# Altium schematic symbol library Schlib1.SchLib: 33 symbols
Pins are listed as number, name and electrical type; pins without a type are passive.

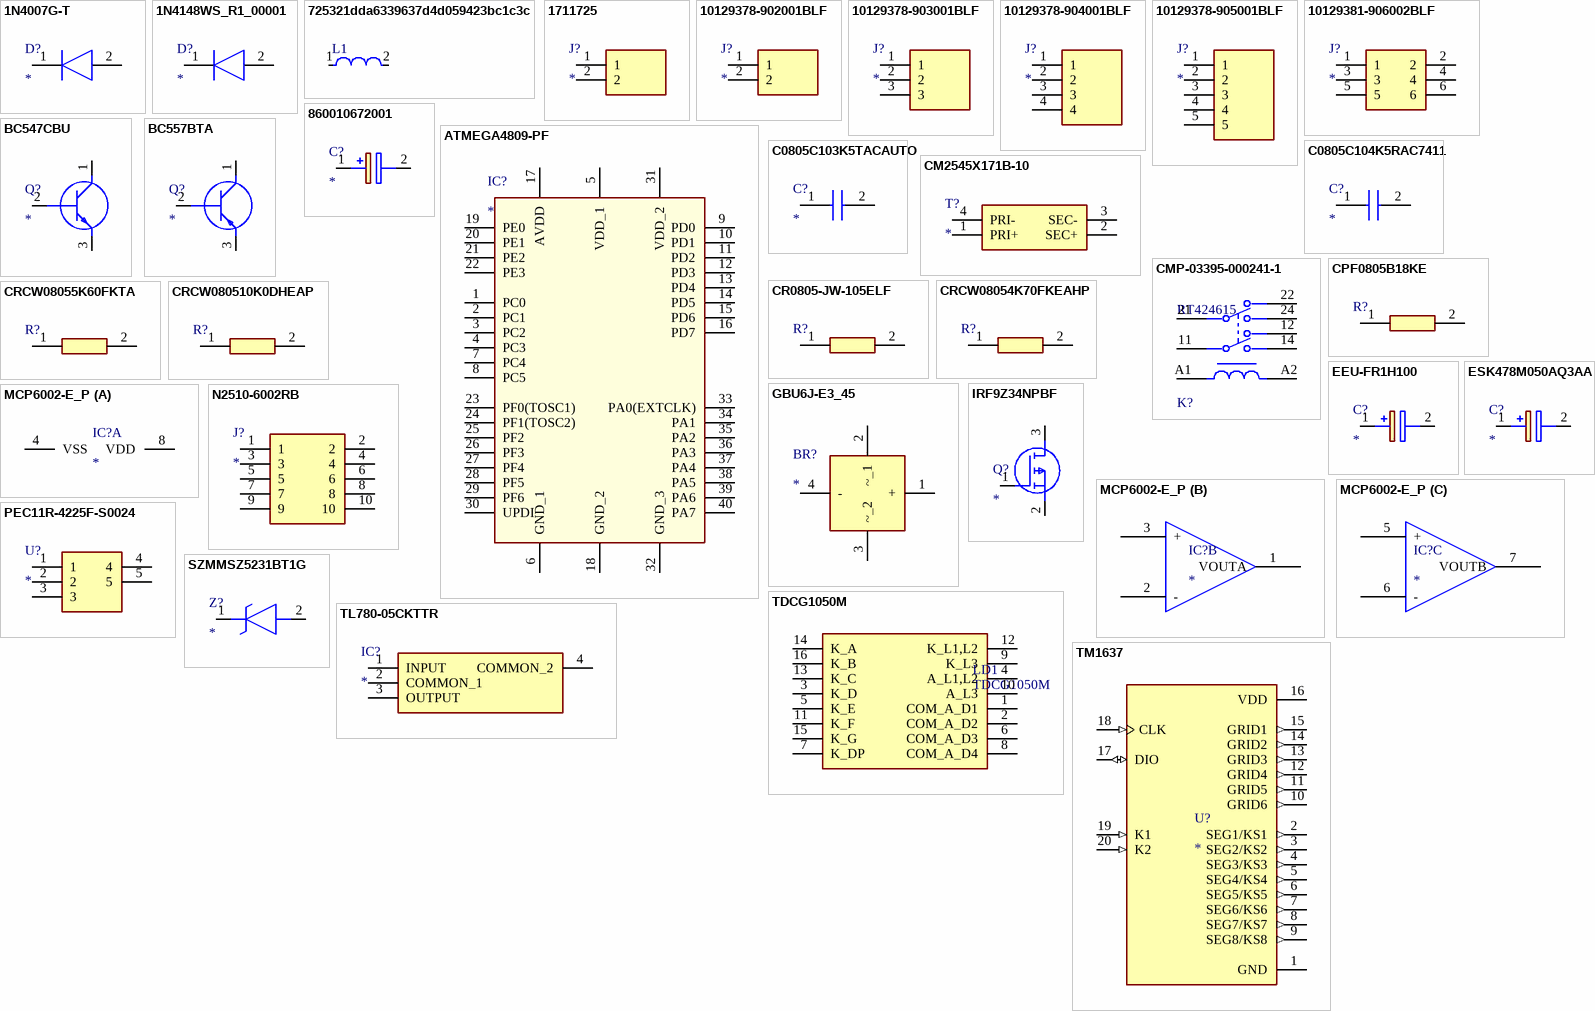
[diagram p0: symbols 1N4007G-T to TM1637]

## 1N4007G-T
designator D?
Diode; Manufacturer_Name: Diodes Inc.; Manufacturer_Part_Number: 1N4007G-T; Datasheet Link: https://componentsearchengine.com//1N4007G-T.pdf; Mouser2 Part Number: 621-1N4007G-T; Mouser2 Price/Stock: https://www.mouser.com/Search/Refine.aspx?Keyword=621-1N4007G-T
footprint D1
pins: 1 K, 2 A

## 1N4148WS_R1_00001
designator D?
Diode; Manufacturer_Name: PANJIT; Manufacturer_Part_Number: 1N4148WS_R1_00001; Datasheet Link: https://www.mouser.it/datasheet/2/1057/1N4148WS-1869723.pdf; Height: 0.95mm
footprint D3
pins: 1 K, 2 A

## 725321dda6339637d4d059423bc1c3c
designator L1, comment CBC3225T100MR  (value not drawn)
SMD Inductors 10uH ±20% 0.9A 0.1729Ω 1210; Shielding: Unshielded; DC Resistance (DCR): 172.9mR; Core Material: Ferrite; Self Resonant Frequency: 23MHz; Max DC Current: 900mA; Test Frequency: 100kHz; Package Quantity: 1000; Military Standard: Not; Inductance: 10uH; Height: 2.5mm; Case Code (Metric): 3225; Width: 0.098inch; Case Code (Imperial): 1210; Inductance Tolerance: 20%; Lead Free: Lead Free; Length: 3.4mm; Max Operating Temperature: 105°C; Resistor Type: Wirewound; Height - Seated (Max): 0.106inch; Series: CB; Packaging: Tape and Reel; Depth: 2.7mm; Number of Pins: 2; Radiation Hardening: No; Tolerance: 20%; Case/Package: 1210; Mount: Surface Mount; Saturation Current: 900mA; Min Operating Temperature: -40°C; DC Current: 900mA; Current Rating: 900mA; Halogen Free: Halogen Free; Termination: SMD/SMT
footprint FP-CB3225-IPC_A
footprint FP-CB3225-MFG
footprint FP-CB3225-IPC_B
footprint FP-CB3225-IPC_C
pins: 1, 2

## 1711725
designator J?
Connector; Manufacturer_Name: Phoenix Contact; Manufacturer_Part_Number: 1711725; Datasheet Link: http://www.phoenixcontact.com/de/produkte/1711725/pdf; Height: 18.2mm
footprint Phoenix (Serie 2535 - 5.08 mm _ 2 pins)
pins: 1, 2

## 10129378-902001BLF
designator J?
Connector; Manufacturer_Name: Amphenol; Manufacturer_Part_Number: 10129378-902001BLF; Datasheet Link: https://www.mouser.co.uk/datasheet/2/18/10129378-1530218.pdf; Height: 8.43mm
footprint HDRV2W67P0X254_1X2_508X241X843P
pins: 1, 2

## 10129378-903001BLF
designator J?
Connector; Manufacturer_Name: Amphenol; Manufacturer_Part_Number: 10129378-903001BLF; Height: 8.58mm
footprint 3x1
pins: 1, 2, 3

## 10129378-904001BLF
designator J?
Connector; Manufacturer_Name: Amphenol; Manufacturer_Part_Number: 10129378-904001BLF; Datasheet Link: https://cdn.amphenol-icc.com/media/wysiwyg/files/drawing/10129378.pdf; Height: 8.58mm
footprint 4x1
pins: 1, 2, 3, 4

## 10129378-905001BLF
designator J?
Connector; Manufacturer_Name: FCI Electronics; Manufacturer_Part_Number: 10129378-905001BLF; Datasheet Link: https://cdn.amphenol-icc.com/media/wysiwyg/files/drawing/10129378.pdf; Height: 8.58mm
footprint 5x1
pins: 1, 2, 3, 4, 5

## 10129381-906002BLF
designator J?
Connector; Manufacturer_Name: Amphenol; Manufacturer_Part_Number: 10129381-906002BLF; Datasheet Link: https://componentsearchengine.com//10129381-906002BLF.pdf; Height: 8.58mm; Mouser2 Part Number: 649-1012938190602BLF; Mouser2 Price/Stock: https://www.mouser.com/Search/Refine.aspx?Keyword=649-1012938190602BLF
footprint 3x2
pins: 1, 2, 3, 4, 5, 6

## 860010672001
designator C?
Capacitor Polarised 0.1uF 50V; Manufacturer_Name: Wurth Elektronik; Manufacturer_Part_Number: 860010672001; Datasheet Link: http://katalog.we-online.com/pbs/datasheet/860010672001.pdf; Height: 12.5mm
footprint 100nF (Ceramic Capacitors, body 2x1.25mm)
pins: 1 +, 2 -

## ATMEGA4809-PF
designator IC?
Integrated Circuit; Manufacturer_Name: Microchip; Manufacturer_Part_Number: ATMEGA4809-PF; Datasheet Link: https://componentsearchengine.com//ATMEGA4809-PF.pdf; Height: 6.35mm; Mouser2 Part Number: 556-ATMEGA4809-PF; Mouser2 Price/Stock: https://www.mouser.com/Search/Refine.aspx?Keyword=556-ATMEGA4809-PF
footprint Atmega
pins: 1 PC0, 2 PC1, 3 PC2, 4 PC3, 5 VDD_1, 6 GND_1, 7 PC4, 8 PC5, 9 PD0, 10 PD1, 11 PD2, 12 PD3, 13 PD4, 14 PD5, 15 PD6, 16 PD7, 17 AVDD, 18 GND_2, 19 PE0, 20 PE1, 21 PE2, 22 PE3, 23 PF0(TOSC1), 24 PF1(TOSC2), 25 PF2, 26 PF3, 27 PF4, 28 PF5, 29 PF6, 30 UPDI, 31 VDD_2, 32 GND_3, 33 PA0(EXTCLK), 34 PA1, 35 PA2, 36 PA3, 37 PA4, 38 PA5, 39 PA6, 40 PA7

## BC547CBU
designator Q?
Transistor BJT NPN; Manufacturer_Name: ON Semiconductor; Manufacturer_Part_Number: BC547CBU; Datasheet Link: https://www.onsemi.com/pdf/datasheet/bc550-d.pdf; Height: 5.33mm
footprint TTTT
pins: 1 C, 2 B, 3 E

## BC557BTA
designator Q?
Transistor BJT PNP; Manufacturer_Name: ON Semiconductor; Manufacturer_Part_Number: BC557BTA; Datasheet Link: https://componentsearchengine.com//BC557BTA.pdf; Height: 4.19mm; Mouser2 Part Number: 512-BC557BTA; Mouser2 Price/Stock: https://www.mouser.com/Search/Refine.aspx?Keyword=512-BC557BTA
footprint TTTT
pins: 1 C, 2 B, 3 E

## C0805C103K5TACAUTO
designator C?
Capacitor 0.01µF 50VDC; Manufacturer_Name: Kemet; Manufacturer_Part_Number: C0805C103K5TACAUTO; Height: 0.88mm
footprint 10nF (Ceramic Capacitors, body 2x1.25mm)
pins: 1, 2

## C0805C104K5RAC7411
designator C?
Capacitor  0.1 uF 50VDC; Manufacturer_Name: Kemet; Manufacturer_Part_Number: C0805C104K5RAC7411; Datasheet Link: https://componentsearchengine.com//C0805C104K5RAC7411.pdf; Height: 0.88mm; Mouser2 Part Number: 80-C0805C104K5RACLR; Mouser2 Price/Stock: https://www.mouser.com/Search/Refine.aspx?Keyword=80-C0805C104K5RACLR
footprint 100nF (Ceramic Capacitors, body 2x1.25mm)
pins: 1, 2

## CM2545X171B-10
designator T?
Transformer; Manufacturer_Name: Laird Technologies; Manufacturer_Part_Number: CM2545X171B-10; Datasheet Link: https://datasheet.datasheetarchive.com/originals/dk/DKDS-7/122753.pdf; Height: 9.5mm
footprint L2
pins: 1 PRI+, 2 SEC+, 3 SEC-, 4 PRI-

## CMP-03395-000241-1
designator K?, comment RT424615
RELAY GEN PURPOSE DPDT 8A 115V; Max Current Rating: 15A; Ratings: IP54; Coil Type: Non-Latching; Power Rating: 760mW; Max Voltage Rating (AC): 400V; Coil Resistance: 8.1kR; Operate Time: 8ms; Approvals: CSA; Application(s): POWER; Relay Type: General Purpose; Switching Capacity: 2kW; Length: 29mm; Switching Current: 8A; Mount: Through Hole; Contact Current Rating: 8A; Coil Voltage (AC): 115V; Voltage Rating (AC): 400V; Width: 12.7mm; Radiation Hardening: No; Case/Package: DIP; Current Rating: 8A; Number of Pins: 8; Height: 15.7mm; Series: RT2, SCHRACK; Throw Configuration: DPDT; Packaging: Rail/Tube; Package Quantity: 500; Min Operating Temperature: -40°C; Termination: PC Pin; RoHS Compliant: Yes; Depth: 12.7mm; Max Operating Temperature: 70°C; Contact Material: Silver
footprint FP-RT424615-MFG
pins: 11, 12, 14, 21, 22, 24, A1, A2

## CPF0805B18KE
designator R?  (value not drawn)
Resistor 510Ohm; Manufacturer_Name: TE Connectivity; Manufacturer_Part_Number: CPF0805B18KE; Datasheet Link: https://datasheet.datasheetarchive.com/originals/distributors/DKDS-21/401696.pdf; Height: 0.65mm
footprint Resistor
pins: 1, 2

## CR0805-JW-105ELF
designator R?  (value not drawn)
Resistor 1MOhm; Manufacturer_Name: Bourns; Manufacturer_Part_Number: CR0805-JW-105ELF; Datasheet Link: https://www.bourns.com/pdfs/chpreztr.pdf; Height: 0.6mm
footprint Resistor
pins: 1, 2

## CRCW08054K70FKEAHP
designator R?  (value not drawn)
Resistor 4.7KOhm; Manufacturer_Name: Vishay; Manufacturer_Part_Number: CRCW08054K70FKEAHP; Datasheet Link: https://componentsearchengine.com//CRCW08054K70FKEAHP.pdf; Height: 0.5mm; Mouser2 Part Number: 71-CRCW08054K70FKEAH; Mouser2 Price/Stock: https://www.mouser.com/Search/Refine.aspx?Keyword=71-CRCW08054K70FKEAH
footprint Resistor
pins: 1, 2

## CRCW08055K60FKTA
designator R?  (value not drawn)
Resistor 5.6KOhm; Manufacturer_Name: Vishay; Manufacturer_Part_Number: CRCW08055K60FKTA; Datasheet Link: http://www.vishay.com/docs/20035/dcrcwe3.pdf; Height: 0.5mm
footprint Resistor
pins: 1, 2

## CRCW080510K0DHEAP
designator R?  (value not drawn)
Resistor 10KOhm; Manufacturer_Name: Vishay; Manufacturer_Part_Number: CRCW080510K0DHEAP; Datasheet Link: https://www.arrow.com/en/products/crcw080510k0dheap/vishay; Height: 0.5mm
footprint Resistor
pins: 1, 2

## EEU-FR1H100
designator C?
Capacitor Polarised 50VDC 10uF; Manufacturer_Name: Panasonic; Manufacturer_Part_Number: EEU-FR1H100; Datasheet Link: https://componentsearchengine.com//EEU-FR1H100.pdf; Height: 12.5mm; Mouser2 Part Number: 667-EEU-FR1H100; Mouser2 Price/Stock: https://www.mouser.com/Search/Refine.aspx?Keyword=667-EEU-FR1H100
footprint 10µF 50V (Aluminum Electrolytic Capacitors, 5x11mm)
pins: 1 + (power), 2 - (power)

## ESK478M050AQ3AA
designator C?
Capacitor Polarised 50V 4700uF; Manufacturer_Name: Kemet; Manufacturer_Part_Number: ESK478M050AQ3AA; Datasheet Link: https://componentsearchengine.com//ESK478M050AQ3AA.pdf; Height: 37mm; Mouser2 Part Number: 80-ESK478M050AQ3AA; Mouser2 Price/Stock: https://www.mouser.com/Search/Refine.aspx?Keyword=80-ESK478M050AQ3AA
footprint 4700µF 50V (Aluminum Electrolytic Capacitors, 22x41mm)
pins: 1 +, 2 -

## GBU6J-E3_45
designator BR?
Bridge Rectifier; Manufacturer_Name: Vishay; Manufacturer_Part_Number: GBU6J-E3/45; Datasheet Link: http://www.vishay.com/docs/88615/gbu6a.pdf; Height: 18.8mm
footprint Bridge rectifier
pins: 1 +, 2 ~_1, 3 ~_2, 4 -

## IRF9Z34NPBF
designator Q?
MOSFET (P-Channel); Manufacturer_Name: Infineon; Manufacturer_Part_Number: IRF9Z34NPBF; Datasheet Link: https://componentsearchengine.com//IRF9Z34NPBF.pdf; Height: 4.69mm; Mouser2 Part Number: 942-IRF9Z34NPBF; Mouser2 Price/Stock: https://www.mouser.com/Search/Refine.aspx?Keyword=942-IRF9Z34NPBF
footprint T2
pins: 1 G, 2 S, 3 D

## MCP6002-E_P
designator IC?
Integrated Circuit, opamp; Manufacturer_Name: Microchip; Manufacturer_Part_Number: MCP6002-E/P; Datasheet Link: https://componentsearchengine.com//MCP6002-E_P.pdf; Height: 5.334mm; Mouser2 Part Number: 579-MCP6002-E/P; Mouser2 Price/Stock: https://www.mouser.com/Search/Refine.aspx?Keyword=579-MCP6002-E%2FP
footprint IC2
part A pins: 4 VSS, 8 VDD
part B pins: 1 VOUTA, 2 -, 3 +
part C pins: 5 +, 6 -, 7 VOUTB

## N2510-6002RB
designator J?
Connector; Manufacturer_Name: 3M; Manufacturer_Part_Number: N2510-6002RB; Datasheet Link: https://componentsearchengine.com//N2510-6002RB.pdf; Height: 9.91mm; Mouser2 Part Number: 517-N2510-6002RB; Mouser2 Price/Stock: https://www.mouser.com/Search/Refine.aspx?Keyword=517-N2510-6002RB
footprint 1PinBox
pins: 1, 2, 3, 4, 5, 6, 7, 8, 9, 10

## PEC11R-4225F-S0024
designator U?
Undefined or Miscellaneous; Manufacturer_Name: Bourns; Manufacturer_Part_Number: PEC11R-4225F-S0024; Datasheet Link: https://componentsearchengine.com//PEC11R-4225F-S0024.pdf; Mouser2 Part Number: 652-PEC11R-4225F-S24; Mouser2 Price/Stock: https://www.mouser.com/Search/Refine.aspx?Keyword=652-PEC11R-4225F-S24
footprint Rotery
pins: 1, 2, 3, 4, 5

## SZMMSZ5231BT1G
designator Z?
Zener Diode; Manufacturer_Name: ON Semiconductor; Manufacturer_Part_Number: SZMMSZ5231BT1G; Datasheet Link: https://componentsearchengine.com//SZMMSZ5231BT1G.pdf; Height: 1.35mm; Mouser2 Part Number: 863-SZMMSZ5231BT1G; Mouser2 Price/Stock: https://www.mouser.com/Search/Refine.aspx?Keyword=863-SZMMSZ5231BT1G
footprint Zener
pins: 1 K, 2 A

## TDCG1050M
designator LD1
Display; Manufacturer_Name: Vishay; Datasheet Link: https://componentsearchengine.com//TDCG1050M.pdf; Height: 7.25mm; Mouser2 Part Number: 78-TDCG1050; Mouser2 Price/Stock: https://www.mouser.com/Search/Refine.aspx?Keyword=78-TDCG1050; Manufacturer_Part_Number: TDCG1050M
footprint Display
pins: 1 COM_A_D1, 2 COM_A_D2, 3 K_D, 4 A_L1,L2, 5 K_E, 6 COM_A_D3, 7 K_DP, 8 COM_A_D4, 9 K_L3, 10 A_L3, 11 K_F, 12 K_L1,L2, 13 K_C, 14 K_A, 15 K_G, 16 K_B

## TL780-05CKTTR
designator IC?
Integrated Circuit; Manufacturer_Name: Texas Instruments; Manufacturer_Part_Number: TL780-05CKTTR; Datasheet Link: http://www.ti.com/general/docs/suppproductinfo.tsp?distId=26&gotoUrl=http%3A%2F%2Fwww.ti.com%2Flit%2Fgpn%2Ftl780; Height: 5.08mm
footprint IC1
pins: 1 INPUT, 2 COMMON_1, 3 OUTPUT, 4 COMMON_2

## TM1637
designator U?
LED Drive Control Special Circuit; MF: Titan Micro Electronics; MP: TM1637; Package: Package; Availability: Not in stock; SnapEDA_Link: https://www.snapeda.com/parts/TM1637/Titan+Micro+Electronics/view-part/?ref=snap; Check_prices: https://www.snapeda.com/parts/TM1637/Titan+Micro+Electronics/view-part/?ref=eda; Value: *; Price: None
footprint DisplayIC
pins: 1 GND (power), 2 SEG1/KS1 (out), 3 SEG2/KS2 (out), 4 SEG3/KS3 (out), 5 SEG4/KS4 (out), 6 SEG5/KS5 (out), 7 SEG6/KS6 (out), 8 SEG7/KS7 (out), 9 SEG8/KS8 (out), 10 GRID6 (out), 11 GRID5 (out), 12 GRID4 (out), 13 GRID3 (out), 14 GRID2 (out), 15 GRID1 (out), 16 VDD (power), 17 DIO (io), 18 CLK (in), 19 K1 (in), 20 K2 (in)